# EAGLE library part LCW-111-XX-X-S (library con-samtec02)
Male Header - LCW Series
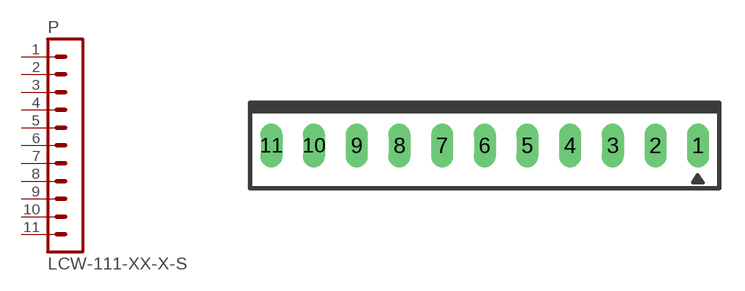
[diagram p24: symbol with the pads of LCW-111-XX-X-S; footprint LCW-111-XX-X-S]

Designator prefix P

## LCW-111-XX-X-S  [LCW-111-XX-X-S]
1  1  pas
2  2  pas
3  3  pas
4  4  pas
5  5  pas
6  6  pas
7  7  pas
8  8  pas
9  9  pas
10  10  pas
11  11  pas

## Footprint LCW-111-XX-X-S (pad centres in mm)
Samtec LCW Series friction lock strips, 0.025" square pins
drill 0.813 long: 1 12.7,0; 2 10.16,0; 3 7.62,0; 4 5.08,0; 5 2.54,0; 6 0,0; 7 -2.54,0; 8 -5.08,0; 9 -7.62,0; 10 -10.16,0; 11 -12.7,0